# EAGLE library part LASTTRENNSCHALTER_3-POL_HANDBETAETIGT_MIT_SCHALTSCHLOSS (library e-schalter)
Lasttrennschalter handbetätigt mit Schaltschloss, 3-pol.
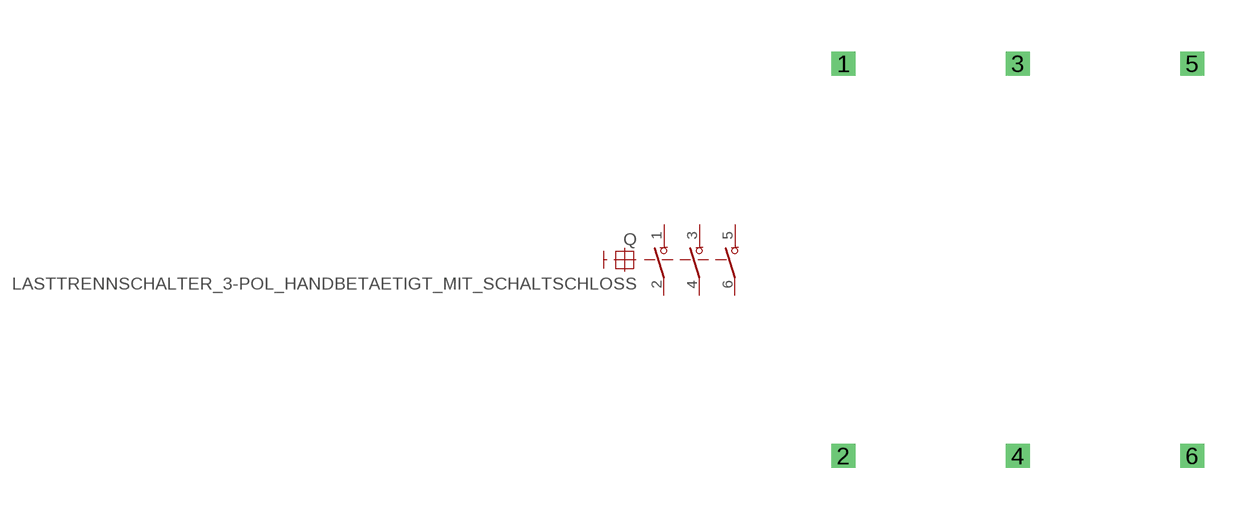
[diagram p1: symbol with the pads of LASTTRENNSCHALTER_HANDBETAETIGT_MIT_SCHALTSCHLOSS_3-POL; footprint LASTTRENNSCHALTER_HANDBETAETIGT_MIT_SCHALTSCHLOSS_3-POL]

Designator prefix Q

## LASTTRENNSCHALTER_3-POL_HANDBETAETIGT_MIT_SCHALTSCHLOSS  [LASTTRENNSCHALTER_HANDBETAETIGT_MIT_SCHALTSCHLOSS_3-POL]
1  1  pas
2  2  pas
3  3  pas
4  4  pas
5  5  pas
6  6  pas

## Footprint LASTTRENNSCHALTER_HANDBETAETIGT_MIT_SCHALTSCHLOSS_3-POL (pad centres in mm)
Dummy
drill 0.2 pad 0.6 square: 1 -5.08,5.715; 2 -5.08,-5.715; 3 0,5.715; 4 0,-5.715; 5 5.08,5.715; 6 5.08,-5.715